# Altium schematic symbol library Communication_Interfaces_RS232_GOST.SchLib: 1 symbol
Pins are listed as number, name and electrical type; pins without a type are passive.

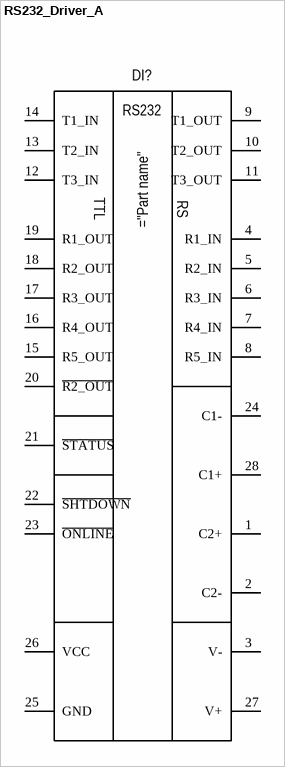
[diagram p0: symbol RS232_Driver_A]

## RS232_Driver_A
designator DI?
pins: 1 C2+, 2 C2-, 3 V-, 4 R1_IN, 5 R2_IN, 6 R3_IN, 7 R4_IN, 8 R5_IN, 9 T1_OUT, 10 T2_OUT, 11 T3_OUT, 12 T3_IN, 13 T2_IN, 14 T1_IN, 15 R5_OUT, 16 R4_OUT, 17 R3_OUT, 18 R2_OUT, 19 R1_OUT, 20 ~{R2_OUT}, 21 ~{STATUS}, 22 ~{SHTDOWN}, 23 ~{ONLINE}, 24 C1-, 25 GND, 26 VCC, 27 V+, 28 C1+
text: RS232; TTL; RS